# Altium integrated library National Semiconductor Audio.IntLib: 683 symbols (part 16 of 18)
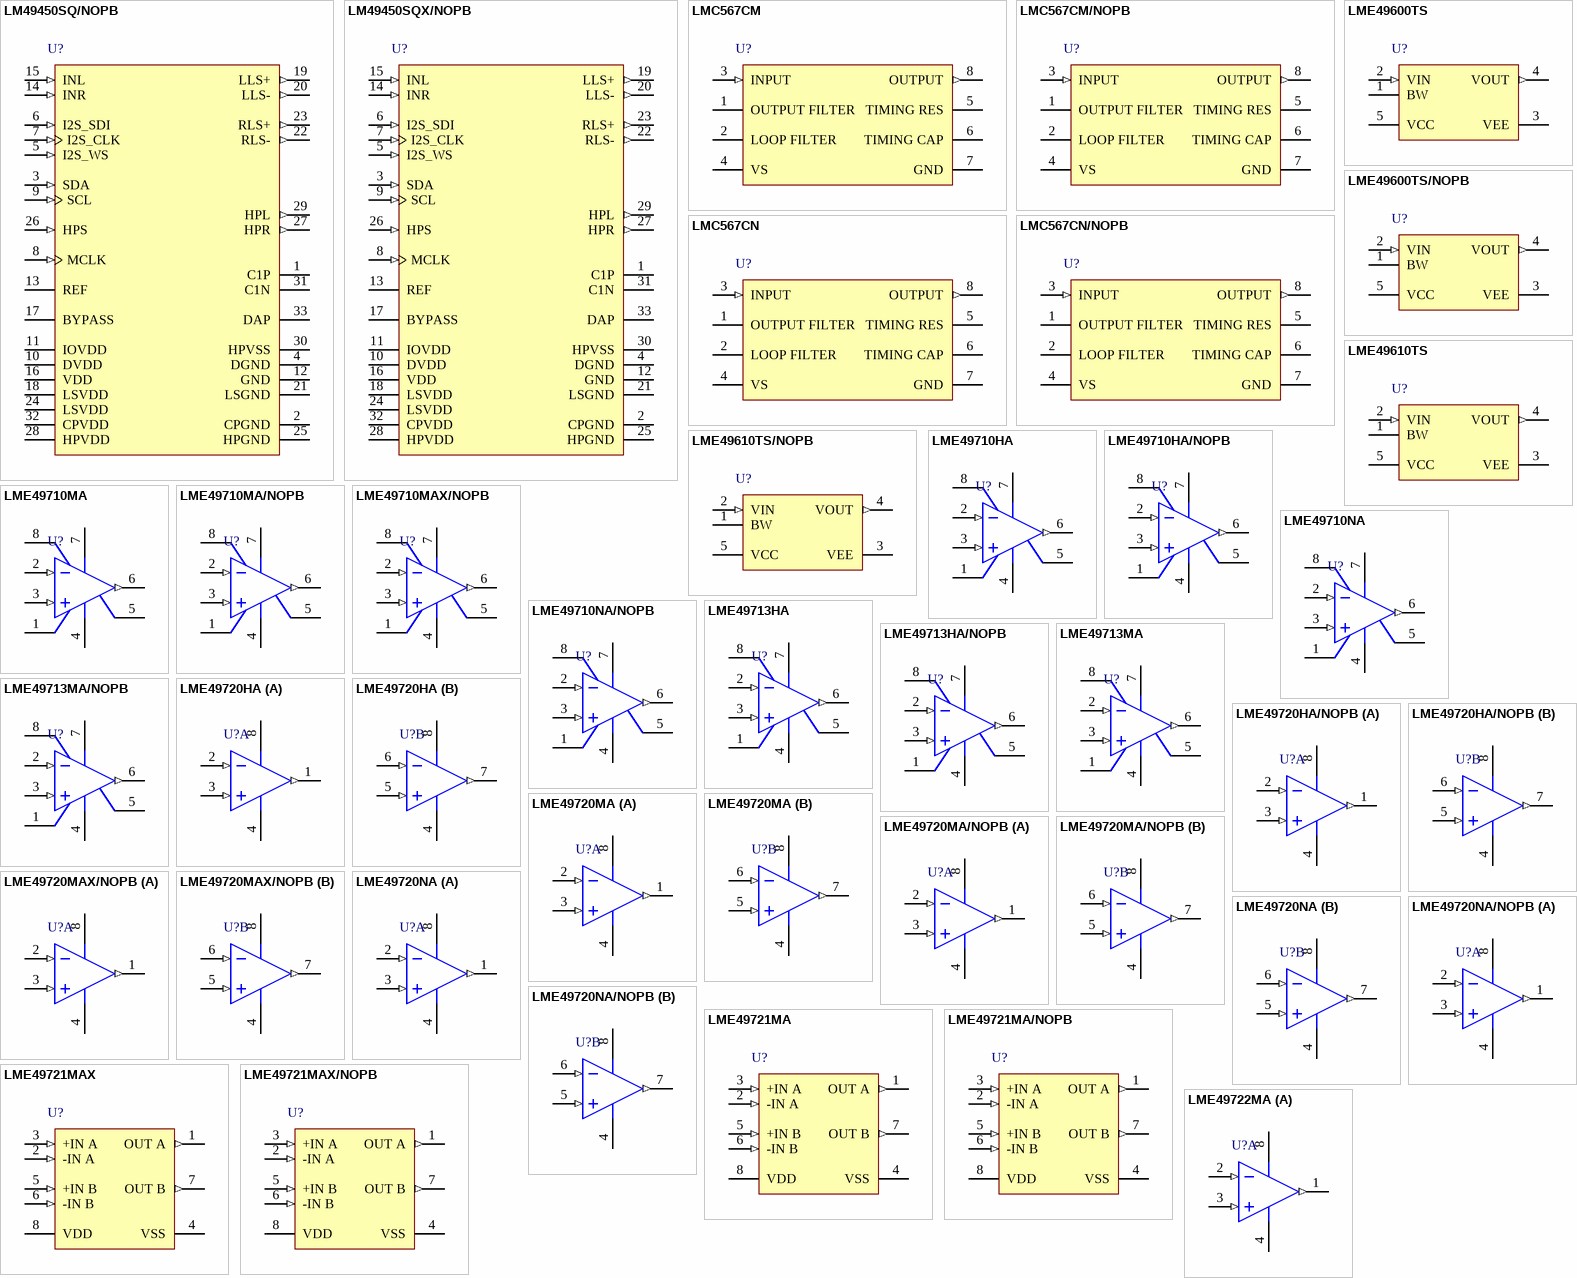
[diagram p41: symbols LM49450SQ/NOPB to LME49722MA]

## LME49710NA
designator U?
High Performance, High Fidelity Audio Operational Amplifier, 8-pin MDIP; PartNumber: LME49710NA; Manufacturer: National Semiconductor; PackageTopMarking: NSUZXYTT*LME*49710NA; PowerWise: Y; CompType: Audio IC; DatasheetVersion: Mar-2007; PackageVersion: revG, May-2006; PackageReference: N08E; PackageDescription: MDIP, .365 x .250 x .130in, 8 Lead, .100in Pitch; RoHS: Y; PinCount: 8; High-Reliability: Y; Code_JEDEC: MS-001-BA; ComponentLink1Description: Manufacturer URL; ComponentLink1URL: http://www.national.com/; ComponentLink2Description: LME49710 Datasheet; ComponentLink2URL: http://www.national.com/ds/LM/LME49710.pdf; ComponentLink3Description: LME49710 Web Page; ComponentLink3URL: http://www.national.com/pf/LM/LME49710.html; ComponentLink4Description: N08E Package Page; ComponentLink4URL: http://www.national.com/packaging/folders/n08e.html
footprint N08E (DIP, 8-Leads, Row Spacing 7.62mm, Pitch 2.54mm, Body 9.91x6.35mm)
pins: 1 NC, 2 -IN (in), 3 +IN (in), 4 V- (power), 5 NC, 6 OUTPUT (out), 7 V+ (power), 8 NC

## LME49710NA/NOPB
designator U?
High Performance, High Fidelity Audio Operational Amplifier, 8-pin MDIP, Pb-Free; PartNumber: LME49710NA/NOPB; Manufacturer: National Semiconductor; PackageTopMarking: NSUZXYTTE#*LME*49710NA; PowerWise: Y; CompType: Audio IC; DatasheetVersion: Mar-2007; PackageVersion: revG, May-2006; PackageReference: N08E; PackageDescription: MDIP, .365 x .250 x .130in, 8 Lead, .100in Pitch; RoHS: Y; PinCount: 8; High-Reliability: Y; Code_JEDEC: MS-001-BA; ComponentLink1Description: Manufacturer URL; ComponentLink1URL: http://www.national.com/; ComponentLink2Description: LME49710 Datasheet; ComponentLink2URL: http://www.national.com/ds/LM/LME49710.pdf; ComponentLink3Description: LME49710 Web Page; ComponentLink3URL: http://www.national.com/pf/LM/LME49710.html; ComponentLink4Description: N08E Package Page; ComponentLink4URL: http://www.national.com/packaging/folders/n08e.html
footprint N08E (DIP, 8-Leads, Row Spacing 7.62mm, Pitch 2.54mm, Body 9.91x6.35mm)
pins: 1 NC, 2 -IN (in), 3 +IN (in), 4 V- (power), 5 NC, 6 OUTPUT (out), 7 V+ (power), 8 NC

## LME49713HA
designator U?
High Performance, High Fidelity Current Feedback Audio Operational Amplifier, 8-pin TO-99; PartNumber: LME49713HA; Manufacturer: National Semiconductor; PackageTopMarking: NSZXYTTE#*LME*49713HA; PowerWise: N; CompType: Audio IC; High-Reliability: Y; DatasheetVersion: Aug-2008; PackageVersion: revF, Jun-1995; PackageReference: H08C; PackageDescription: Metal Can, TO-99, 8 Lead, .200 Dia., P.C.; RoHS: Y; PinCount: 8; Code_JEDEC: TO-99; ComponentLink1Description: Manufacturer URL; ComponentLink1URL: http://www.national.com/; ComponentLink2Description: LME49713 Datasheet; ComponentLink2URL: http://www.national.com/ds/LM/LME49713.pdf; ComponentLink3Description: LME49713 Web Page; ComponentLink3URL: http://www.national.com/pf/LM/LME49713.html; ComponentLink4Description: H08C Package Page; ComponentLink4URL: http://www.national.com/packaging/folders/h08c.html
footprint H08C (Can; 8 Leads; Pin Circle Dia. 5.08 mm; Lead Dia. 0.48 mm (max))
pins: 1 NC, 2 -IN (in), 3 +IN (in), 4 V- (power), 5 NC, 6 OUTPUT (out), 7 V+ (power), 8 NC

## LME49713HA/NOPB
designator U?
High Performance, High Fidelity Current Feedback Audio Operational Amplifier, 8-pin TO-99, Pb-Free; PartNumber: LME49713HA/NOPB; Manufacturer: National Semiconductor; PackageTopMarking: NSZXYTTE#*LME*49713HA; PowerWise: N; CompType: Audio IC; High-Reliability: Y; DatasheetVersion: Aug-2008; PackageVersion: revF, Jun-1995; PackageReference: H08C; PackageDescription: Metal Can, TO-99, 8 Lead, .200 Dia., P.C.; RoHS: Y; PinCount: 8; Code_JEDEC: TO-99; ComponentLink1Description: Manufacturer URL; ComponentLink1URL: http://www.national.com/; ComponentLink2Description: LME49713 Datasheet; ComponentLink2URL: http://www.national.com/ds/LM/LME49713.pdf; ComponentLink3Description: LME49713 Web Page; ComponentLink3URL: http://www.national.com/pf/LM/LME49713.html; ComponentLink4Description: H08C Package Page; ComponentLink4URL: http://www.national.com/packaging/folders/h08c.html
footprint H08C (Can; 8 Leads; Pin Circle Dia. 5.08 mm; Lead Dia. 0.48 mm (max))
pins: 1 NC, 2 -IN (in), 3 +IN (in), 4 V- (power), 5 NC, 6 OUTPUT (out), 7 V+ (power), 8 NC

## LME49713MA
designator U?
High Performance, High Fidelity Current Feedback Audio Operational Amplifier, 8-pin Narrow SOIC; PartNumber: LME49713MA; Manufacturer: National Semiconductor; PackageTopMarking: NSZXTT*L49713*MA; PowerWise: N; CompType: Audio IC; High-Reliability: Y; DatasheetVersion: Aug-2008; PackageVersion: revM, May-2009; PackageReference: M08A; PackageDescription: SOIC Narrow, 4.9 x 3.9 x 1.45mm, 8 Lead, 1.27mm Pitch; RoHS: Y; PinCount: 8; Code_JEDEC: MS-012-AA; Code_IPC: SOIC127P600-8; ComponentLink1Description: Manufacturer URL; ComponentLink1URL: http://www.national.com/; ComponentLink2Description: LME49713 Datasheet; ComponentLink2URL: http://www.national.com/ds/LM/LME49713.pdf; ComponentLink3Description: LME49713 Web Page; ComponentLink3URL: http://www.national.com/pf/LM/LME49713.html; ComponentLink4Description: M08A Package Page; ComponentLink4URL: http://www.national.com/packaging/folders/m08a.html
footprint M08A_N (SOIC, 8-Leads, Body 4.9x3.9mm, Pitch 1.27mm, IPC Medium Density)
footprint M08A_L (SOIC, 8-Leads, Body 4.9x3.9mm, Pitch 1.27mm, IPC High Density)
footprint M08A_M (SOIC, 8-Leads, Body 4.9x3.9mm, Pitch 1.27mm, IPC Low Density)
pins: 1 NC, 2 -IN (in), 3 +IN (in), 4 V- (power), 5 NC, 6 OUTPUT (out), 7 V+ (power), 8 NC

## LME49713MA/NOPB
designator U?
High Performance, High Fidelity Current Feedback Audio Operational Amplifier, 8-pin Narrow SOIC, Pb-Free; PartNumber: LME49713MA/NOPB; Manufacturer: National Semiconductor; PackageTopMarking: NSZXTT*L49713*MA; PowerWise: N; CompType: Audio IC; High-Reliability: Y; DatasheetVersion: Aug-2008; PackageVersion: revM, May-2009; PackageReference: M08A; PackageDescription: SOIC Narrow, 4.9 x 3.9 x 1.45mm, 8 Lead, 1.27mm Pitch; RoHS: Y; PinCount: 8; Code_JEDEC: MS-012-AA; Code_IPC: SOIC127P600-8; ComponentLink1Description: Manufacturer URL; ComponentLink1URL: http://www.national.com/; ComponentLink2Description: LME49713 Datasheet; ComponentLink2URL: http://www.national.com/ds/LM/LME49713.pdf; ComponentLink3Description: LME49713 Web Page; ComponentLink3URL: http://www.national.com/pf/LM/LME49713.html; ComponentLink4Description: M08A Package Page; ComponentLink4URL: http://www.national.com/packaging/folders/m08a.html
footprint M08A_N (SOIC, 8-Leads, Body 4.9x3.9mm, Pitch 1.27mm, IPC Medium Density)
footprint M08A_L (SOIC, 8-Leads, Body 4.9x3.9mm, Pitch 1.27mm, IPC High Density)
footprint M08A_M (SOIC, 8-Leads, Body 4.9x3.9mm, Pitch 1.27mm, IPC Low Density)
pins: 1 NC, 2 -IN (in), 3 +IN (in), 4 V- (power), 5 NC, 6 OUTPUT (out), 7 V+ (power), 8 NC

## LME49720HA
designator U?
Dual High Performance, High Fidelity Audio Operational Amplifier, 8-pin TO-99; PartNumber: LME49720HA; Manufacturer: National Semiconductor; PackageTopMarking: NSZXYTTE#*LME*49720HA; PowerWise: Y; CompType: Audio IC; DatasheetVersion: Oct-2007; PackageVersion: revF, Jun-1995; PackageReference: H08C; PackageDescription: Metal Can, TO-99, 8 Lead, .200 Dia., P.C.; RoHS: Y; PinCount: 8; High-Reliability: Y; Code_JEDEC: TO-99; ComponentLink1Description: Manufacturer URL; ComponentLink1URL: http://www.national.com/; ComponentLink2Description: LME49720 Datasheet; ComponentLink2URL: http://www.national.com/ds/LM/LME49720.pdf; ComponentLink3Description: LME49720 Web Page; ComponentLink3URL: http://www.national.com/pf/LM/LME49720.html; ComponentLink4Description: H08C Package Page; ComponentLink4URL: http://www.national.com/packaging/folders/h08c.html
footprint H08C (Can; 8 Leads; Pin Circle Dia. 5.08 mm; Lead Dia. 0.48 mm (max))
pins on every part: 4 V- (power), 8 V+ (power)
part A pins: 1 OUT A (out), 2 IN A (in), 3 IN A (in)
part B pins: 5 IN B (in), 6 IN B (in), 7 OUT B (out)

## LME49720HA/NOPB
designator U?
Dual High Performance, High Fidelity Audio Operational Amplifier, 8-pin TO-99, Pb-Free; PartNumber: LME49720HA/NOPB; Manufacturer: National Semiconductor; PackageTopMarking: NSZXYTTE#*LME*49720HA; PowerWise: Y; CompType: Audio IC; DatasheetVersion: Oct-2007; PackageVersion: revF, Jun-1995; PackageReference: H08C; PackageDescription: Metal Can, TO-99, 8 Lead, .200 Dia., P.C.; RoHS: Y; PinCount: 8; High-Reliability: Y; Code_JEDEC: TO-99; ComponentLink1Description: Manufacturer URL; ComponentLink1URL: http://www.national.com/; ComponentLink2Description: LME49720 Datasheet; ComponentLink2URL: http://www.national.com/ds/LM/LME49720.pdf; ComponentLink3Description: LME49720 Web Page; ComponentLink3URL: http://www.national.com/pf/LM/LME49720.html; ComponentLink4Description: H08C Package Page; ComponentLink4URL: http://www.national.com/packaging/folders/h08c.html
footprint H08C (Can; 8 Leads; Pin Circle Dia. 5.08 mm; Lead Dia. 0.48 mm (max))
pins on every part: 4 V- (power), 8 V+ (power)
part A pins: 1 OUT A (out), 2 IN A (in), 3 IN A (in)
part B pins: 5 IN B (in), 6 IN B (in), 7 OUT B (out)

## LME49720MA
designator U?
Dual High Performance, High Fidelity Audio Operational Amplifier, 8-pin Narrow SOIC; PartNumber: LME49720MA; Manufacturer: National Semiconductor; PackageTopMarking: NSZXTT*L49720*MA; PowerWise: Y; CompType: Audio IC; DatasheetVersion: Oct-2007; PackageVersion: revM, May-2009; PackageReference: M08A; PackageDescription: SOIC Narrow, 4.9 x 3.9 x 1.45mm, 8 Lead, 1.27mm Pitch; RoHS: Y; PinCount: 8; High-Reliability: Y; Code_JEDEC: MS-012-AA; Code_IPC: SOIC127P600-8; ComponentLink1Description: Manufacturer URL; ComponentLink1URL: http://www.national.com/; ComponentLink2Description: LME49720 Datasheet; ComponentLink2URL: http://www.national.com/ds/LM/LME49720.pdf; ComponentLink3Description: LME49720 Web Page; ComponentLink3URL: http://www.national.com/pf/LM/LME49720.html; ComponentLink4Description: M08A Package Page; ComponentLink4URL: http://www.national.com/packaging/folders/m08a.html
footprint M08A_N (SOIC, 8-Leads, Body 4.9x3.9mm, Pitch 1.27mm, IPC Medium Density)
footprint M08A_L (SOIC, 8-Leads, Body 4.9x3.9mm, Pitch 1.27mm, IPC High Density)
footprint M08A_M (SOIC, 8-Leads, Body 4.9x3.9mm, Pitch 1.27mm, IPC Low Density)
pins on every part: 4 V- (power), 8 V+ (power)
part A pins: 1 OUT A (out), 2 IN A (in), 3 IN A (in)
part B pins: 5 IN B (in), 6 IN B (in), 7 OUT B (out)

## LME49720MA/NOPB
designator U?
Dual High Performance, High Fidelity Audio Operational Amplifier, 8-pin Narrow SOIC, Pb-Free; PartNumber: LME49720MA/NOPB; Manufacturer: National Semiconductor; PackageTopMarking: NSZXTT*L49720*MA; PowerWise: Y; CompType: Audio IC; DatasheetVersion: Oct-2007; PackageVersion: revM, May-2009; PackageReference: M08A; PackageDescription: SOIC Narrow, 4.9 x 3.9 x 1.45mm, 8 Lead, 1.27mm Pitch; RoHS: Y; PinCount: 8; High-Reliability: Y; Code_JEDEC: MS-012-AA; Code_IPC: SOIC127P600-8; ComponentLink1Description: Manufacturer URL; ComponentLink1URL: http://www.national.com/; ComponentLink2Description: LME49720 Datasheet; ComponentLink2URL: http://www.national.com/ds/LM/LME49720.pdf; ComponentLink3Description: LME49720 Web Page; ComponentLink3URL: http://www.national.com/pf/LM/LME49720.html; ComponentLink4Description: M08A Package Page; ComponentLink4URL: http://www.national.com/packaging/folders/m08a.html
footprint M08A_N (SOIC, 8-Leads, Body 4.9x3.9mm, Pitch 1.27mm, IPC Medium Density)
footprint M08A_L (SOIC, 8-Leads, Body 4.9x3.9mm, Pitch 1.27mm, IPC High Density)
footprint M08A_M (SOIC, 8-Leads, Body 4.9x3.9mm, Pitch 1.27mm, IPC Low Density)
pins on every part: 4 V- (power), 8 V+ (power)
part A pins: 1 OUT A (out), 2 IN A (in), 3 IN A (in)
part B pins: 5 IN B (in), 6 IN B (in), 7 OUT B (out)

## LME49720MAX/NOPB
designator U?
Dual High Performance, High Fidelity Audio Operational Amplifier, 8-pin Narrow SOIC, Pb-Free; PartNumber: LME49720MAX/NOPB; Manufacturer: National Semiconductor; PackageTopMarking: NSZXTT*L49720*MA; PowerWise: Y; CompType: Audio IC; DatasheetVersion: Oct-2007; PackageVersion: revM, May-2009; PackageReference: M08A; PackageDescription: SOIC Narrow, 4.9 x 3.9 x 1.45mm, 8 Lead, 1.27mm Pitch; RoHS: Y; PinCount: 8; High-Reliability: Y; Code_JEDEC: MS-012-AA; Code_IPC: SOIC127P600-8; ComponentLink1Description: Manufacturer URL; ComponentLink1URL: http://www.national.com/; ComponentLink2Description: LME49720 Datasheet; ComponentLink2URL: http://www.national.com/ds/LM/LME49720.pdf; ComponentLink3Description: LME49720 Web Page; ComponentLink3URL: http://www.national.com/pf/LM/LME49720.html; ComponentLink4Description: M08A Package Page; ComponentLink4URL: http://www.national.com/packaging/folders/m08a.html
footprint M08A_N (SOIC, 8-Leads, Body 4.9x3.9mm, Pitch 1.27mm, IPC Medium Density)
footprint M08A_L (SOIC, 8-Leads, Body 4.9x3.9mm, Pitch 1.27mm, IPC High Density)
footprint M08A_M (SOIC, 8-Leads, Body 4.9x3.9mm, Pitch 1.27mm, IPC Low Density)
pins on every part: 4 V- (power), 8 V+ (power)
part A pins: 1 OUT A (out), 2 IN A (in), 3 IN A (in)
part B pins: 5 IN B (in), 6 IN B (in), 7 OUT B (out)

## LME49720NA
designator U?
Dual High Performance, High Fidelity Audio Operational Amplifier, 8-pin MDIP; PartNumber: LME49720NA; Manufacturer: National Semiconductor; PackageTopMarking: NSUZXYTT*LME*49720NA; PowerWise: Y; CompType: Audio IC; DatasheetVersion: Oct-2007; PackageVersion: revG, May-2006; PackageReference: N08E; PackageDescription: MDIP, .365 x .250 x .130in, 8 Lead, .100in Pitch; RoHS: Y; PinCount: 8; High-Reliability: Y; Code_JEDEC: MS-001-BA; ComponentLink1Description: Manufacturer URL; ComponentLink1URL: http://www.national.com/; ComponentLink2Description: LME49720 Datasheet; ComponentLink2URL: http://www.national.com/ds/LM/LME49720.pdf; ComponentLink3Description: LME49720 Web Page; ComponentLink3URL: http://www.national.com/pf/LM/LME49720.html; ComponentLink4Description: N08E Package Page; ComponentLink4URL: http://www.national.com/packaging/folders/n08e.html
footprint N08E (DIP, 8-Leads, Row Spacing 7.62mm, Pitch 2.54mm, Body 9.91x6.35mm)
pins on every part: 4 V- (power), 8 V+ (power)
part A pins: 1 OUT A (out), 2 IN A (in), 3 IN A (in)
part B pins: 5 IN B (in), 6 IN B (in), 7 OUT B (out)

## LME49720NA/NOPB
designator U?
Dual High Performance, High Fidelity Audio Operational Amplifier, 8-pin MDIP, Pb-Free; PartNumber: LME49720NA/NOPB; Manufacturer: National Semiconductor; PackageTopMarking: NSUZXYTTE#*LME*49720NA; PowerWise: Y; CompType: Audio IC; DatasheetVersion: Oct-2007; PackageVersion: revG, May-2006; PackageReference: N08E; PackageDescription: MDIP, .365 x .250 x .130in, 8 Lead, .100in Pitch; RoHS: Y; PinCount: 8; High-Reliability: Y; Code_JEDEC: MS-001-BA; ComponentLink1Description: Manufacturer URL; ComponentLink1URL: http://www.national.com/; ComponentLink2Description: LME49720 Datasheet; ComponentLink2URL: http://www.national.com/ds/LM/LME49720.pdf; ComponentLink3Description: LME49720 Web Page; ComponentLink3URL: http://www.national.com/pf/LM/LME49720.html; ComponentLink4Description: N08E Package Page; ComponentLink4URL: http://www.national.com/packaging/folders/n08e.html
footprint N08E (DIP, 8-Leads, Row Spacing 7.62mm, Pitch 2.54mm, Body 9.91x6.35mm)
pins on every part: 4 V- (power), 8 V+ (power)
part A pins: 1 OUT A (out), 2 IN A (in), 3 IN A (in)
part B pins: 5 IN B (in), 6 IN B (in), 7 OUT B (out)

## LME49721MA
designator U?
High Performance, High Fidelity Rail-to-Rail Input/Output Audio Operational Amplifier, 8-pin Narrow SOIC; PartNumber: LME49721MA; Manufacturer: National Semiconductor; PackageTopMarking: NSZXTT*L49721*MA; PowerWise: N; CompType: Audio IC; High-Reliability: Y; DatasheetVersion: Oct-2007; PackageVersion: revM, May-2009; PackageReference: M08A; PackageDescription: SOIC Narrow, 4.9 x 3.9 x 1.45mm, 8 Lead, 1.27mm Pitch; RoHS: N; PinCount: 8; Code_JEDEC: MS-012-AA; Code_IPC: SOIC127P600-8; ComponentLink1Description: Manufacturer URL; ComponentLink1URL: http://www.national.com/; ComponentLink2Description: LME49721 Datasheet; ComponentLink2URL: http://www.national.com/ds/LM/LME49721.pdf; ComponentLink3Description: LME49721 Web Page; ComponentLink3URL: http://www.national.com/pf/LM/LME49721.html; ComponentLink4Description: M08A Package Page; ComponentLink4URL: http://www.national.com/packaging/folders/m08a.html
footprint M08A_N (SOIC, 8-Leads, Body 4.9x3.9mm, Pitch 1.27mm, IPC Medium Density)
footprint M08A_L (SOIC, 8-Leads, Body 4.9x3.9mm, Pitch 1.27mm, IPC High Density)
footprint M08A_M (SOIC, 8-Leads, Body 4.9x3.9mm, Pitch 1.27mm, IPC Low Density)
pins: 1 OUT A (out), 2 -IN A (in), 3 +IN A (in), 4 VSS (power), 5 +IN B (in), 6 -IN B (in), 7 OUT B (out), 8 VDD (power)

## LME49721MA/NOPB
designator U?
High Performance, High Fidelity Rail-to-Rail Input/Output Audio Operational Amplifier, 8-pin Narrow SOIC, Pb-Free; PartNumber: LME49721MA/NOPB; Manufacturer: National Semiconductor; PackageTopMarking: NSZXTT*L49721*MA; PowerWise: N; CompType: Audio IC; High-Reliability: Y; DatasheetVersion: Oct-2007; PackageVersion: revM, May-2009; PackageReference: M08A; PackageDescription: SOIC Narrow, 4.9 x 3.9 x 1.45mm, 8 Lead, 1.27mm Pitch; RoHS: Y; PinCount: 8; Code_JEDEC: MS-012-AA; Code_IPC: SOIC127P600-8; ComponentLink1Description: Manufacturer URL; ComponentLink1URL: http://www.national.com/; ComponentLink2Description: LME49721 Datasheet; ComponentLink2URL: http://www.national.com/ds/LM/LME49721.pdf; ComponentLink3Description: LME49721 Web Page; ComponentLink3URL: http://www.national.com/pf/LM/LME49721.html; ComponentLink4Description: M08A Package Page; ComponentLink4URL: http://www.national.com/packaging/folders/m08a.html
footprint M08A_N (SOIC, 8-Leads, Body 4.9x3.9mm, Pitch 1.27mm, IPC Medium Density)
footprint M08A_L (SOIC, 8-Leads, Body 4.9x3.9mm, Pitch 1.27mm, IPC High Density)
footprint M08A_M (SOIC, 8-Leads, Body 4.9x3.9mm, Pitch 1.27mm, IPC Low Density)
pins: 1 OUT A (out), 2 -IN A (in), 3 +IN A (in), 4 VSS (power), 5 +IN B (in), 6 -IN B (in), 7 OUT B (out), 8 VDD (power)

## LME49721MAX
designator U?
High Performance, High Fidelity Rail-to-Rail Input/Output Audio Operational Amplifier, 8-pin Narrow SOIC; PartNumber: LME49721MAX; Manufacturer: National Semiconductor; PackageTopMarking: NSZXTT*L49721*MA; PowerWise: N; CompType: Audio IC; High-Reliability: Y; DatasheetVersion: Oct-2007; PackageVersion: revM, May-2009; PackageReference: M08A; PackageDescription: SOIC Narrow, 4.9 x 3.9 x 1.45mm, 8 Lead, 1.27mm Pitch; RoHS: N; PinCount: 8; Code_JEDEC: MS-012-AA; Code_IPC: SOIC127P600-8; ComponentLink1Description: Manufacturer URL; ComponentLink1URL: http://www.national.com/; ComponentLink2Description: LME49721 Datasheet; ComponentLink2URL: http://www.national.com/ds/LM/LME49721.pdf; ComponentLink3Description: LME49721 Web Page; ComponentLink3URL: http://www.national.com/pf/LM/LME49721.html; ComponentLink4Description: M08A Package Page; ComponentLink4URL: http://www.national.com/packaging/folders/m08a.html
footprint M08A_N (SOIC, 8-Leads, Body 4.9x3.9mm, Pitch 1.27mm, IPC Medium Density)
footprint M08A_L (SOIC, 8-Leads, Body 4.9x3.9mm, Pitch 1.27mm, IPC High Density)
footprint M08A_M (SOIC, 8-Leads, Body 4.9x3.9mm, Pitch 1.27mm, IPC Low Density)
pins: 1 OUT A (out), 2 -IN A (in), 3 +IN A (in), 4 VSS (power), 5 +IN B (in), 6 -IN B (in), 7 OUT B (out), 8 VDD (power)

## LME49721MAX/NOPB
designator U?
High Performance, High Fidelity Rail-to-Rail Input/Output Audio Operational Amplifier, 8-pin Narrow SOIC, Pb-Free; PartNumber: LME49721MAX/NOPB; Manufacturer: National Semiconductor; PackageTopMarking: NSZXTT*L49721*MA; PowerWise: N; CompType: Audio IC; High-Reliability: Y; DatasheetVersion: Oct-2007; PackageVersion: revM, May-2009; PackageReference: M08A; PackageDescription: SOIC Narrow, 4.9 x 3.9 x 1.45mm, 8 Lead, 1.27mm Pitch; RoHS: Y; PinCount: 8; Code_JEDEC: MS-012-AA; Code_IPC: SOIC127P600-8; ComponentLink1Description: Manufacturer URL; ComponentLink1URL: http://www.national.com/; ComponentLink2Description: LME49721 Datasheet; ComponentLink2URL: http://www.national.com/ds/LM/LME49721.pdf; ComponentLink3Description: LME49721 Web Page; ComponentLink3URL: http://www.national.com/pf/LM/LME49721.html; ComponentLink4Description: M08A Package Page; ComponentLink4URL: http://www.national.com/packaging/folders/m08a.html
footprint M08A_N (SOIC, 8-Leads, Body 4.9x3.9mm, Pitch 1.27mm, IPC Medium Density)
footprint M08A_L (SOIC, 8-Leads, Body 4.9x3.9mm, Pitch 1.27mm, IPC High Density)
footprint M08A_M (SOIC, 8-Leads, Body 4.9x3.9mm, Pitch 1.27mm, IPC Low Density)
pins: 1 OUT A (out), 2 -IN A (in), 3 +IN A (in), 4 VSS (power), 5 +IN B (in), 6 -IN B (in), 7 OUT B (out), 8 VDD (power)

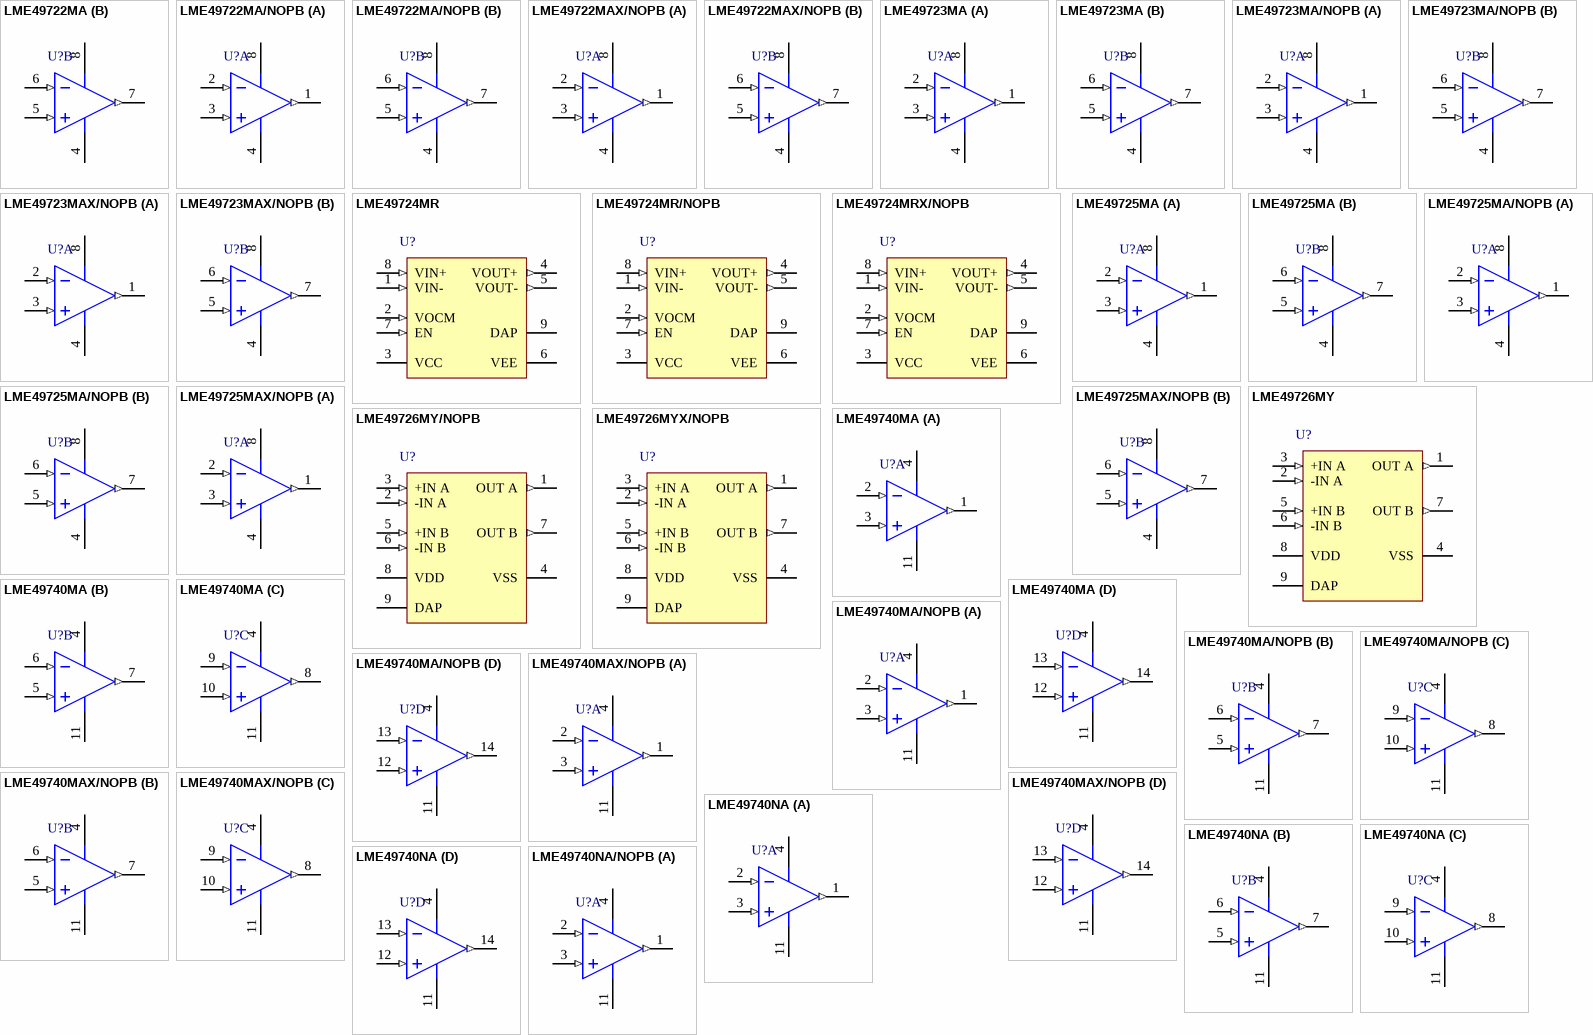
[diagram p24: symbols LME49722MA to LME49740NA/NOPB]

## LME49722MA
designator U?
Low Noise, High Performance, High Fidelity Dual Audio Operational Amplifier, 8-pin Narrow SOIC; PartNumber: LME49722MA; Manufacturer: National Semiconductor; PackageTopMarking: NSZXTT*L49722*MA; PowerWise: N; CompType: Audio IC; High-Reliability: Y; DatasheetVersion: Mar-2008; PackageVersion: revM, May-2009; PackageReference: M08A; PackageDescription: SOIC Narrow, 4.9 x 3.9 x 1.45mm, 8 Lead, 1.27mm Pitch; RoHS: Y; PinCount: 8; Code_JEDEC: MS-012-AA; Code_IPC: SOIC127P600-8; ComponentLink1Description: Manufacturer URL; ComponentLink1URL: http://www.national.com/; ComponentLink2Description: LME49722 Datasheet; ComponentLink2URL: http://www.national.com/ds/LM/LME49722.pdf; ComponentLink3Description: LME49722 Web Page; ComponentLink3URL: http://www.national.com/pf/LM/LME49722.html; ComponentLink4Description: M08A Package Page; ComponentLink4URL: http://www.national.com/packaging/folders/m08a.html
footprint M08A_N (SOIC, 8-Leads, Body 4.9x3.9mm, Pitch 1.27mm, IPC Medium Density)
footprint M08A_L (SOIC, 8-Leads, Body 4.9x3.9mm, Pitch 1.27mm, IPC High Density)
footprint M08A_M (SOIC, 8-Leads, Body 4.9x3.9mm, Pitch 1.27mm, IPC Low Density)
pins on every part: 4 V- (power), 8 V+ (power)
part A pins: 1 OUT A (out), 2 IN A (in), 3 IN A (in)
part B pins: 5 IN B (in), 6 IN B (in), 7 OUT B (out)

## LME49722MA/NOPB
designator U?
Low Noise, High Performance, High Fidelity Dual Audio Operational Amplifier, 8-pin Narrow SOIC, Pb-Free; PartNumber: LME49722MA/NOPB; Manufacturer: National Semiconductor; PackageTopMarking: NSZXTT*L49722*MA; PowerWise: N; CompType: Audio IC; High-Reliability: Y; DatasheetVersion: Mar-2008; PackageVersion: revM, May-2009; PackageReference: M08A; PackageDescription: SOIC Narrow, 4.9 x 3.9 x 1.45mm, 8 Lead, 1.27mm Pitch; RoHS: Y; PinCount: 8; Code_JEDEC: MS-012-AA; Code_IPC: SOIC127P600-8; ComponentLink1Description: Manufacturer URL; ComponentLink1URL: http://www.national.com/; ComponentLink2Description: LME49722 Datasheet; ComponentLink2URL: http://www.national.com/ds/LM/LME49722.pdf; ComponentLink3Description: LME49722 Web Page; ComponentLink3URL: http://www.national.com/pf/LM/LME49722.html; ComponentLink4Description: M08A Package Page; ComponentLink4URL: http://www.national.com/packaging/folders/m08a.html
footprint M08A_N (SOIC, 8-Leads, Body 4.9x3.9mm, Pitch 1.27mm, IPC Medium Density)
footprint M08A_L (SOIC, 8-Leads, Body 4.9x3.9mm, Pitch 1.27mm, IPC High Density)
footprint M08A_M (SOIC, 8-Leads, Body 4.9x3.9mm, Pitch 1.27mm, IPC Low Density)
pins on every part: 4 V- (power), 8 V+ (power)
part A pins: 1 OUT A (out), 2 IN A (in), 3 IN A (in)
part B pins: 5 IN B (in), 6 IN B (in), 7 OUT B (out)

## LME49722MAX/NOPB
designator U?
Low Noise, High Performance, High Fidelity Dual Audio Operational Amplifier, 8-pin Narrow SOIC, Pb-Free; PartNumber: LME49722MAX/NOPB; Manufacturer: National Semiconductor; PackageTopMarking: NSZXTT*L49722*MA; PowerWise: N; CompType: Audio IC; High-Reliability: Y; DatasheetVersion: Mar-2008; PackageVersion: revM, May-2009; PackageReference: M08A; PackageDescription: SOIC Narrow, 4.9 x 3.9 x 1.45mm, 8 Lead, 1.27mm Pitch; RoHS: Y; PinCount: 8; Code_JEDEC: MS-012-AA; Code_IPC: SOIC127P600-8; ComponentLink1Description: Manufacturer URL; ComponentLink1URL: http://www.national.com/; ComponentLink2Description: LME49722 Datasheet; ComponentLink2URL: http://www.national.com/ds/LM/LME49722.pdf; ComponentLink3Description: LME49722 Web Page; ComponentLink3URL: http://www.national.com/pf/LM/LME49722.html; ComponentLink4Description: M08A Package Page; ComponentLink4URL: http://www.national.com/packaging/folders/m08a.html
footprint M08A_N (SOIC, 8-Leads, Body 4.9x3.9mm, Pitch 1.27mm, IPC Medium Density)
footprint M08A_L (SOIC, 8-Leads, Body 4.9x3.9mm, Pitch 1.27mm, IPC High Density)
footprint M08A_M (SOIC, 8-Leads, Body 4.9x3.9mm, Pitch 1.27mm, IPC Low Density)
pins on every part: 4 V- (power), 8 V+ (power)
part A pins: 1 OUT A (out), 2 IN A (in), 3 IN A (in)
part B pins: 5 IN B (in), 6 IN B (in), 7 OUT B (out)

## LME49723MA
designator U?
Dual High Fidelity Audio Operational Amplifier, 8-pin Narrow SOIC; PartNumber: LME49723MA; Manufacturer: National Semiconductor; PackageTopMarking: NSZXTT*L49723*MA; PowerWise: N; CompType: Audio IC; High-Reliability: Y; DatasheetVersion: Feb-2008; PackageVersion: revM, May-2009; PackageReference: M08A; PackageDescription: SOIC Narrow, 4.9 x 3.9 x 1.45mm, 8 Lead, 1.27mm Pitch; RoHS: Y; PinCount: 8; Code_JEDEC: MS-012-AA; Code_IPC: SOIC127P600-8; ComponentLink1Description: Manufacturer URL; ComponentLink1URL: http://www.national.com/; ComponentLink2Description: LME49723 Datasheet; ComponentLink2URL: http://www.national.com/ds/LM/LME49723.pdf; ComponentLink3Description: LME49723 Web Page; ComponentLink3URL: http://www.national.com/pf/LM/LME49723.html; ComponentLink4Description: M08A Package Page; ComponentLink4URL: http://www.national.com/packaging/folders/m08a.html
footprint M08A_N (SOIC, 8-Leads, Body 4.9x3.9mm, Pitch 1.27mm, IPC Medium Density)
footprint M08A_L (SOIC, 8-Leads, Body 4.9x3.9mm, Pitch 1.27mm, IPC High Density)
footprint M08A_M (SOIC, 8-Leads, Body 4.9x3.9mm, Pitch 1.27mm, IPC Low Density)
pins on every part: 4 V- (power), 8 V+ (power)
part A pins: 1 OUT A (out), 2 IN A (in), 3 IN A (in)
part B pins: 5 IN B (in), 6 IN B (in), 7 OUT B (out)

## LME49723MA/NOPB
designator U?
Dual High Fidelity Audio Operational Amplifier, 8-pin Narrow SOIC, Pb-Free; PartNumber: LME49723MA/NOPB; Manufacturer: National Semiconductor; PackageTopMarking: NSZXTT*L49723*MA; PowerWise: N; CompType: Audio IC; High-Reliability: Y; DatasheetVersion: Feb-2008; PackageVersion: revM, May-2009; PackageReference: M08A; PackageDescription: SOIC Narrow, 4.9 x 3.9 x 1.45mm, 8 Lead, 1.27mm Pitch; RoHS: Y; PinCount: 8; Code_JEDEC: MS-012-AA; Code_IPC: SOIC127P600-8; ComponentLink1Description: Manufacturer URL; ComponentLink1URL: http://www.national.com/; ComponentLink2Description: LME49723 Datasheet; ComponentLink2URL: http://www.national.com/ds/LM/LME49723.pdf; ComponentLink3Description: LME49723 Web Page; ComponentLink3URL: http://www.national.com/pf/LM/LME49723.html; ComponentLink4Description: M08A Package Page; ComponentLink4URL: http://www.national.com/packaging/folders/m08a.html
footprint M08A_N (SOIC, 8-Leads, Body 4.9x3.9mm, Pitch 1.27mm, IPC Medium Density)
footprint M08A_L (SOIC, 8-Leads, Body 4.9x3.9mm, Pitch 1.27mm, IPC High Density)
footprint M08A_M (SOIC, 8-Leads, Body 4.9x3.9mm, Pitch 1.27mm, IPC Low Density)
pins on every part: 4 V- (power), 8 V+ (power)
part A pins: 1 OUT A (out), 2 IN A (in), 3 IN A (in)
part B pins: 5 IN B (in), 6 IN B (in), 7 OUT B (out)

## LME49723MAX/NOPB
designator U?
Dual High Fidelity Audio Operational Amplifier, 8-pin Narrow SOIC, Pb-Free; PartNumber: LME49723MAX/NOPB; Manufacturer: National Semiconductor; PackageTopMarking: NSZXTT*L49723*MA; PowerWise: N; CompType: Audio IC; High-Reliability: Y; DatasheetVersion: Feb-2008; PackageVersion: revM, May-2009; PackageReference: M08A; PackageDescription: SOIC Narrow, 4.9 x 3.9 x 1.45mm, 8 Lead, 1.27mm Pitch; RoHS: Y; PinCount: 8; Code_JEDEC: MS-012-AA; Code_IPC: SOIC127P600-8; ComponentLink1Description: Manufacturer URL; ComponentLink1URL: http://www.national.com/; ComponentLink2Description: LME49723 Datasheet; ComponentLink2URL: http://www.national.com/ds/LM/LME49723.pdf; ComponentLink3Description: LME49723 Web Page; ComponentLink3URL: http://www.national.com/pf/LM/LME49723.html; ComponentLink4Description: M08A Package Page; ComponentLink4URL: http://www.national.com/packaging/folders/m08a.html
footprint M08A_N (SOIC, 8-Leads, Body 4.9x3.9mm, Pitch 1.27mm, IPC Medium Density)
footprint M08A_L (SOIC, 8-Leads, Body 4.9x3.9mm, Pitch 1.27mm, IPC High Density)
footprint M08A_M (SOIC, 8-Leads, Body 4.9x3.9mm, Pitch 1.27mm, IPC Low Density)
pins on every part: 4 V- (power), 8 V+ (power)
part A pins: 1 OUT A (out), 2 IN A (in), 3 IN A (in)
part B pins: 5 IN B (in), 6 IN B (in), 7 OUT B (out)

## LME49724MR
designator U?
High Performance, High Fidelity, Fully-Differential Audio Operational Amplifier, 8-pin PSOP; PartNumber: LME49724MR; Manufacturer: National Semiconductor; PackageTopMarking: NSXYTT*L49724*MR; PowerWise: N; CompType: Audio IC; High-Reliability: Y; DatasheetVersion: Nov-2008; PackageVersion: revB, Dec-2007; PackageReference: MRA08B; PackageDescription: Molded, PSOP .193 x .154 x .058in, 8 Lead, .050in Pitch, Large DAP; RoHS: Y; PinCount: 8; Code_JEDEC: MS-012-AA; ComponentLink1Description: Manufacturer URL; ComponentLink1URL: http://www.national.com/; ComponentLink2Description: LME49724 Datasheet; ComponentLink2URL: http://www.national.com/ds/LM/LME49724.pdf; ComponentLink3Description: LME49724 Web Page; ComponentLink3URL: http://www.national.com/pf/LM/LME49724.html; ComponentLink4Description: MRA08B Package Page; ComponentLink4URL: http://www.national.com/packaging/folders/mra08b.html
footprint MRA08B_N (SOIC, 8-Leads, Body 4.9x3.9mm, Pitch 1.27mm, Thermal Pad, IPC Medium Density)
footprint MRA08B_L (SOIC, 8-Leads, Body 4.9x3.9mm, Pitch 1.27mm, Thermal Pad, IPC High Density)
footprint MRA08B_M (SOIC, 8-Leads, Body 4.9x3.9mm, Pitch 1.27mm, Thermal Pad, IPC Low Density)
pins: 1 VIN- (in), 2 VOCM (in), 3 VCC (power), 4 VOUT+ (out), 5 VOUT- (out), 6 VEE (power), 7 EN (in), 8 VIN+ (in), 9 DAP (power)

## LME49724MR/NOPB
designator U?
High Performance, High Fidelity, Fully-Differential Audio Operational Amplifier, 8-pin PSOP, Pb-Free; PartNumber: LME49724MR/NOPB; Manufacturer: National Semiconductor; PackageTopMarking: NSXYTT*L49724*MR; PowerWise: N; CompType: Audio IC; High-Reliability: Y; DatasheetVersion: Nov-2008; PackageVersion: revB, Dec-2007; PackageReference: MRA08B; PackageDescription: Molded, PSOP .193 x .154 x .058in, 8 Lead, .050in Pitch, Large DAP; RoHS: Y; PinCount: 8; Code_JEDEC: MS-012-AA; ComponentLink1Description: Manufacturer URL; ComponentLink1URL: http://www.national.com/; ComponentLink2Description: LME49724 Datasheet; ComponentLink2URL: http://www.national.com/ds/LM/LME49724.pdf; ComponentLink3Description: LME49724 Web Page; ComponentLink3URL: http://www.national.com/pf/LM/LME49724.html; ComponentLink4Description: MRA08B Package Page; ComponentLink4URL: http://www.national.com/packaging/folders/mra08b.html
footprint MRA08B_N (SOIC, 8-Leads, Body 4.9x3.9mm, Pitch 1.27mm, Thermal Pad, IPC Medium Density)
footprint MRA08B_L (SOIC, 8-Leads, Body 4.9x3.9mm, Pitch 1.27mm, Thermal Pad, IPC High Density)
footprint MRA08B_M (SOIC, 8-Leads, Body 4.9x3.9mm, Pitch 1.27mm, Thermal Pad, IPC Low Density)
pins: 1 VIN- (in), 2 VOCM (in), 3 VCC (power), 4 VOUT+ (out), 5 VOUT- (out), 6 VEE (power), 7 EN (in), 8 VIN+ (in), 9 DAP (power)

## LME49724MRX/NOPB
designator U?
High Performance, High Fidelity, Fully-Differential Audio Operational Amplifier, 8-pin PSOP, Pb-Free; PartNumber: LME49724MRX/NOPB; Manufacturer: National Semiconductor; PackageTopMarking: NSXYTT*L49724*MR; PowerWise: N; CompType: Audio IC; High-Reliability: Y; DatasheetVersion: Nov-2008; PackageVersion: revB, Dec-2007; PackageReference: MRA08B; PackageDescription: Molded, PSOP .193 x .154 x .058in, 8 Lead, .050in Pitch, Large DAP; RoHS: Y; PinCount: 8; Code_JEDEC: MS-012-AA; ComponentLink1Description: Manufacturer URL; ComponentLink1URL: http://www.national.com/; ComponentLink2Description: LME49724 Datasheet; ComponentLink2URL: http://www.national.com/ds/LM/LME49724.pdf; ComponentLink3Description: LME49724 Web Page; ComponentLink3URL: http://www.national.com/pf/LM/LME49724.html; ComponentLink4Description: MRA08B Package Page; ComponentLink4URL: http://www.national.com/packaging/folders/mra08b.html
footprint MRA08B_N (SOIC, 8-Leads, Body 4.9x3.9mm, Pitch 1.27mm, Thermal Pad, IPC Medium Density)
footprint MRA08B_L (SOIC, 8-Leads, Body 4.9x3.9mm, Pitch 1.27mm, Thermal Pad, IPC High Density)
footprint MRA08B_M (SOIC, 8-Leads, Body 4.9x3.9mm, Pitch 1.27mm, Thermal Pad, IPC Low Density)
pins: 1 VIN- (in), 2 VOCM (in), 3 VCC (power), 4 VOUT+ (out), 5 VOUT- (out), 6 VEE (power), 7 EN (in), 8 VIN+ (in), 9 DAP (power)

## LME49725MA
designator U?
PowerWise® Dual High Performance, High Fidelity Audio Operational Amplifier, 8-pin Narrow SOIC; PartNumber: LME49725MA; Manufacturer: National Semiconductor; PackageTopMarking: NSZXTT*L49725*MA; PowerWise: Y; CompType: Audio IC; DatasheetVersion: Apr-2008; PackageVersion: revM, May-2009; PackageReference: M08A; PackageDescription: SOIC Narrow, 4.9 x 3.9 x 1.45mm, 8 Lead, 1.27mm Pitch; RoHS: Y; PinCount: 8; High-Reliability: Y; Code_JEDEC: MS-012-AA; Code_IPC: SOIC127P600-8; ComponentLink1Description: Manufacturer URL; ComponentLink1URL: http://www.national.com/; ComponentLink2Description: LME49725 Datasheet; ComponentLink2URL: http://www.national.com/ds/LM/LME49725.pdf; ComponentLink3Description: LME49725 Web Page; ComponentLink3URL: http://www.national.com/pf/LM/LME49725.html; ComponentLink4Description: M08A Package Page; ComponentLink4URL: http://www.national.com/packaging/folders/m08a.html
footprint M08A_N (SOIC, 8-Leads, Body 4.9x3.9mm, Pitch 1.27mm, IPC Medium Density)
footprint M08A_L (SOIC, 8-Leads, Body 4.9x3.9mm, Pitch 1.27mm, IPC High Density)
footprint M08A_M (SOIC, 8-Leads, Body 4.9x3.9mm, Pitch 1.27mm, IPC Low Density)
pins on every part: 4 V- (power), 8 V+ (power)
part A pins: 1 OUT A (out), 2 IN A (in), 3 IN A (in)
part B pins: 5 IN B (in), 6 IN B (in), 7 OUT B (out)

## LME49725MA/NOPB
designator U?
PowerWise® Dual High Performance, High Fidelity Audio Operational Amplifier, 8-pin Narrow SOIC, Pb-Free; PartNumber: LME49725MA/NOPB; Manufacturer: National Semiconductor; PackageTopMarking: NSZXTT*L49725*MA; PowerWise: N; CompType: Audio IC; High-Reliability: Y; DatasheetVersion: Apr-2008; PackageVersion: revM, May-2009; PackageReference: M08A; PackageDescription: SOIC Narrow, 4.9 x 3.9 x 1.45mm, 8 Lead, 1.27mm Pitch; RoHS: Y; PinCount: 8; Code_JEDEC: MS-012-AA; Code_IPC: SOIC127P600-8; ComponentLink1Description: Manufacturer URL; ComponentLink1URL: http://www.national.com/; ComponentLink2Description: LME49725 Datasheet; ComponentLink2URL: http://www.national.com/ds/LM/LME49725.pdf; ComponentLink3Description: LME49725 Web Page; ComponentLink3URL: http://www.national.com/pf/LM/LME49725.html; ComponentLink4Description: M08A Package Page; ComponentLink4URL: http://www.national.com/packaging/folders/m08a.html
footprint M08A_N (SOIC, 8-Leads, Body 4.9x3.9mm, Pitch 1.27mm, IPC Medium Density)
footprint M08A_L (SOIC, 8-Leads, Body 4.9x3.9mm, Pitch 1.27mm, IPC High Density)
footprint M08A_M (SOIC, 8-Leads, Body 4.9x3.9mm, Pitch 1.27mm, IPC Low Density)
pins on every part: 4 V- (power), 8 V+ (power)
part A pins: 1 OUT A (out), 2 IN A (in), 3 IN A (in)
part B pins: 5 IN B (in), 6 IN B (in), 7 OUT B (out)

## LME49725MAX/NOPB
designator U?
PowerWise® Dual High Performance, High Fidelity Audio Operational Amplifier, 8-pin Narrow SOIC, Pb-Free; PartNumber: LME49725MAX/NOPB; Manufacturer: National Semiconductor; PackageTopMarking: NSZXTT*L49725*MA; PowerWise: N; CompType: Audio IC; High-Reliability: Y; DatasheetVersion: Apr-2008; PackageVersion: revM, May-2009; PackageReference: M08A; PackageDescription: SOIC Narrow, 4.9 x 3.9 x 1.45mm, 8 Lead, 1.27mm Pitch; RoHS: Y; PinCount: 8; Code_JEDEC: MS-012-AA; Code_IPC: SOIC127P600-8; ComponentLink1Description: Manufacturer URL; ComponentLink1URL: http://www.national.com/; ComponentLink2Description: LME49725 Datasheet; ComponentLink2URL: http://www.national.com/ds/LM/LME49725.pdf; ComponentLink3Description: LME49725 Web Page; ComponentLink3URL: http://www.national.com/pf/LM/LME49725.html; ComponentLink4Description: M08A Package Page; ComponentLink4URL: http://www.national.com/packaging/folders/m08a.html
footprint M08A_N (SOIC, 8-Leads, Body 4.9x3.9mm, Pitch 1.27mm, IPC Medium Density)
footprint M08A_L (SOIC, 8-Leads, Body 4.9x3.9mm, Pitch 1.27mm, IPC High Density)
footprint M08A_M (SOIC, 8-Leads, Body 4.9x3.9mm, Pitch 1.27mm, IPC Low Density)
pins on every part: 4 V- (power), 8 V+ (power)
part A pins: 1 OUT A (out), 2 IN A (in), 3 IN A (in)
part B pins: 5 IN B (in), 6 IN B (in), 7 OUT B (out)

## LME49726MY
designator U?
High Current, Low Distortion Rail-to-Rail Output Audio Operational Amplifier, 9-pin eMSOP; PartNumber: LME49726MY; Manufacturer: National Semiconductor; PackageTopMarking: ZXTT*ZA3; PowerWise: N; CompType: Audio IC; High-Reliability: Y; DatasheetVersion: Nov-2008; PackageVersion: revA, Nov-2003; PackageReference: MUY08A; PackageDescription: Molded Mini-SO, Exposed Pad, .118 x .118 x .034in Body, 8 Lead, .0256in Pitch; RoHS: Y; PinCount: 8; Code_JEDEC: MO-187-AA; ComponentLink1Description: Manufacturer URL; ComponentLink1URL: http://www.national.com/; ComponentLink2Description: LME49726 Datasheet; ComponentLink2URL: http://www.national.com/ds/LM/LME49726.pdf; ComponentLink3Description: LME49726 Web Page; ComponentLink3URL: http://www.national.com/pf/LM/LME49726.html; ComponentLink4Description: MUY08A Package Page; ComponentLink4URL: http://www.national.com/packaging/folders/muy08a.html
footprint MUY08A_N (TSOP, 8-Leads, Body 3x3mm, Pitch 0.65mm, Thermal Pad, IPC Medium Density)
footprint MUY08A_L (TSOP, 8-Leads, Body 3x3mm, Pitch 0.65mm, Thermal Pad, IPC High Density)
footprint MUY08A_M (TSOP, 8-Leads, Body 3x3mm, Pitch 0.65mm, Thermal Pad, IPC Low Density)
pins: 1 OUT A (out), 2 -IN A (in), 3 +IN A (in), 4 VSS (power), 5 +IN B (in), 6 -IN B (in), 7 OUT B (out), 8 VDD (power), 9 DAP (power)

## LME49726MY/NOPB
designator U?
High Current, Low Distortion Rail-to-Rail Output Audio Operational Amplifier, 8-pin Mini SOIC-EP, Pb-Free; PartNumber: LME49726MY/NOPB; Manufacturer: National Semiconductor; PackageTopMarking: ZXTT*ZA3; PowerWise: N; CompType: Audio IC; High-Reliability: Y; DatasheetVersion: Nov-2008; PackageVersion: revA, Nov-2003; PackageReference: MUY08A; PackageDescription: Molded Mini-SO, Exposed Pad, .118 x .118 x .034in Body, 8 Lead, .0256in Pitch; RoHS: Y; PinCount: 8; Code_JEDEC: MO-187-AA; ComponentLink1Description: Manufacturer URL; ComponentLink1URL: http://www.national.com/; ComponentLink2Description: LME49726 Datasheet; ComponentLink2URL: http://www.national.com/ds/LM/LME49726.pdf; ComponentLink3Description: LME49726 Web Page; ComponentLink3URL: http://www.national.com/pf/LM/LME49726.html; ComponentLink4Description: MUY08A Package Page; ComponentLink4URL: http://www.national.com/packaging/folders/muy08a.html
footprint MUY08A_N (TSOP, 8-Leads, Body 3x3mm, Pitch 0.65mm, Thermal Pad, IPC Medium Density)
footprint MUY08A_L (TSOP, 8-Leads, Body 3x3mm, Pitch 0.65mm, Thermal Pad, IPC High Density)
footprint MUY08A_M (TSOP, 8-Leads, Body 3x3mm, Pitch 0.65mm, Thermal Pad, IPC Low Density)
pins: 1 OUT A (out), 2 -IN A (in), 3 +IN A (in), 4 VSS (power), 5 +IN B (in), 6 -IN B (in), 7 OUT B (out), 8 VDD (power), 9 DAP (power)

## LME49726MYX/NOPB
designator U?
High Current, Low Distortion Rail-to-Rail Output Audio Operational Amplifier, 8-pin Mini SOIC-EP, Pb-Free; PartNumber: LME49726MYX/NOPB; Manufacturer: National Semiconductor; PackageTopMarking: ZXTT*ZA3; PowerWise: N; CompType: Audio IC; High-Reliability: Y; DatasheetVersion: Nov-2008; PackageVersion: revA, Nov-2003; PackageReference: MUY08A; PackageDescription: Molded Mini-SO, Exposed Pad, .118 x .118 x .034in Body, 8 Lead, .0256in Pitch; RoHS: Y; PinCount: 8; Code_JEDEC: MO-187-AA; ComponentLink1Description: Manufacturer URL; ComponentLink1URL: http://www.national.com/; ComponentLink2Description: LME49726 Datasheet; ComponentLink2URL: http://www.national.com/ds/LM/LME49726.pdf; ComponentLink3Description: LME49726 Web Page; ComponentLink3URL: http://www.national.com/pf/LM/LME49726.html; ComponentLink4Description: MUY08A Package Page; ComponentLink4URL: http://www.national.com/packaging/folders/muy08a.html
footprint MUY08A_N (TSOP, 8-Leads, Body 3x3mm, Pitch 0.65mm, Thermal Pad, IPC Medium Density)
footprint MUY08A_L (TSOP, 8-Leads, Body 3x3mm, Pitch 0.65mm, Thermal Pad, IPC High Density)
footprint MUY08A_M (TSOP, 8-Leads, Body 3x3mm, Pitch 0.65mm, Thermal Pad, IPC Low Density)
pins: 1 OUT A (out), 2 -IN A (in), 3 +IN A (in), 4 VSS (power), 5 +IN B (in), 6 -IN B (in), 7 OUT B (out), 8 VDD (power), 9 DAP (power)

## LME49740MA
designator U?
Quad High Performance, High Fidelity Audio Operational Amplifier, 14-pin Narrow SOIC; PartNumber: LME49740MA; Manufacturer: National Semiconductor; PackageTopMarking: NSUZXYTT*LME49740*MA; PowerWise: Y; CompType: Audio IC; DatasheetVersion: Feb-2008; PackageVersion: revJ, Jan-1996; PackageReference: M14A; PackageDescription: Molded Package S.O., .150in Wide, 14 Lead; RoHS: Y; PinCount: 14; High-Reliability: Y; Code_JEDEC: MS-012AB; Code_IPC: SOIC127P600-14; ComponentLink1Description: Manufacturer URL; ComponentLink1URL: http://www.national.com/; ComponentLink2Description: LME49740 Datasheet; ComponentLink2URL: http://www.national.com/ds/LM/LME49740.pdf; ComponentLink3Description: LME49740 Web Page; ComponentLink3URL: http://www.national.com/pf/LM/LME49740.html; ComponentLink4Description: M14A Package Page; ComponentLink4URL: http://www.national.com/packaging/folders/m14a.html
footprint M14A_N (SOIC, 14-Leads, Body 8.6x3.9mm, Pitch 1.27mm, IPC Medium Density)
footprint M14A_L (SOIC, 14-Leads, Body 8.6x3.9mm, Pitch 1.27mm, IPC High Density)
footprint M14A_M (SOIC, 14-Leads, Body 8.6x3.9mm, Pitch 1.27mm, IPC Low Density)
pins on every part: 4 V+ (power), 11 V- (power)
part A pins: 1 OUT1 (out), 2 -IN1 (in), 3 +IN1 (in)
part B pins: 5 +IN2 (in), 6 -IN2 (in), 7 OUT2 (out)
part C pins: 8 OUT3 (out), 9 -IN3 (in), 10 +IN3 (in)
part D pins: 12 +IN4 (in), 13 -IN4 (in), 14 OUT4 (out)

## LME49740MA/NOPB
designator U?
Quad High Performance, High Fidelity Audio Operational Amplifier, 14-pin Narrow SOIC, Pb-Free; PartNumber: LME49740MA/NOPB; Manufacturer: National Semiconductor; PackageTopMarking: NSUZXYTTE#*LME49740*MA; PowerWise: Y; CompType: Audio IC; DatasheetVersion: Feb-2008; PackageVersion: revJ, Jan-1996; PackageReference: M14A; PackageDescription: Molded Package S.O., .150in Wide, 14 Lead; RoHS: Y; PinCount: 14; High-Reliability: Y; Code_JEDEC: MS-012AB; Code_IPC: SOIC127P600-14; ComponentLink1Description: Manufacturer URL; ComponentLink1URL: http://www.national.com/; ComponentLink2Description: LME49740 Datasheet; ComponentLink2URL: http://www.national.com/ds/LM/LME49740.pdf; ComponentLink3Description: LME49740 Web Page; ComponentLink3URL: http://www.national.com/pf/LM/LME49740.html; ComponentLink4Description: M14A Package Page; ComponentLink4URL: http://www.national.com/packaging/folders/m14a.html
footprint M14A_N (SOIC, 14-Leads, Body 8.6x3.9mm, Pitch 1.27mm, IPC Medium Density)
footprint M14A_L (SOIC, 14-Leads, Body 8.6x3.9mm, Pitch 1.27mm, IPC High Density)
footprint M14A_M (SOIC, 14-Leads, Body 8.6x3.9mm, Pitch 1.27mm, IPC Low Density)
pins on every part: 4 V+ (power), 11 V- (power)
part A pins: 1 OUT1 (out), 2 -IN1 (in), 3 +IN1 (in)
part B pins: 5 +IN2 (in), 6 -IN2 (in), 7 OUT2 (out)
part C pins: 8 OUT3 (out), 9 -IN3 (in), 10 +IN3 (in)
part D pins: 12 +IN4 (in), 13 -IN4 (in), 14 OUT4 (out)

## LME49740MAX/NOPB
designator U?
Quad High Performance, High Fidelity Audio Operational Amplifier, 14-pin Narrow SOIC, Pb-Free; PartNumber: LME49740MAX/NOPB; Manufacturer: National Semiconductor; PackageTopMarking: NSUZXYTTE#*LME49740*MA; PowerWise: Y; CompType: Audio IC; DatasheetVersion: Feb-2008; PackageVersion: revJ, Jan-1996; PackageReference: M14A; PackageDescription: Molded Package S.O., .150in Wide, 14 Lead; RoHS: Y; PinCount: 14; High-Reliability: Y; Code_JEDEC: MS-012AB; Code_IPC: SOIC127P600-14; ComponentLink1Description: Manufacturer URL; ComponentLink1URL: http://www.national.com/; ComponentLink2Description: LME49740 Datasheet; ComponentLink2URL: http://www.national.com/ds/LM/LME49740.pdf; ComponentLink3Description: LME49740 Web Page; ComponentLink3URL: http://www.national.com/pf/LM/LME49740.html; ComponentLink4Description: M14A Package Page; ComponentLink4URL: http://www.national.com/packaging/folders/m14a.html
footprint M14A_N (SOIC, 14-Leads, Body 8.6x3.9mm, Pitch 1.27mm, IPC Medium Density)
footprint M14A_L (SOIC, 14-Leads, Body 8.6x3.9mm, Pitch 1.27mm, IPC High Density)
footprint M14A_M (SOIC, 14-Leads, Body 8.6x3.9mm, Pitch 1.27mm, IPC Low Density)
pins on every part: 4 V+ (power), 11 V- (power)
part A pins: 1 OUT1 (out), 2 -IN1 (in), 3 +IN1 (in)
part B pins: 5 +IN2 (in), 6 -IN2 (in), 7 OUT2 (out)
part C pins: 8 OUT3 (out), 9 -IN3 (in), 10 +IN3 (in)
part D pins: 12 +IN4 (in), 13 -IN4 (in), 14 OUT4 (out)

## LME49740NA
designator U?
Quad High Performance, High Fidelity Audio Operational Amplifier, 14-pin MDIP; PartNumber: LME49740NA; Manufacturer: National Semiconductor; PackageTopMarking: NSUZXYYTTE#*LME49740NA; PowerWise: Y; CompType: Audio IC; DatasheetVersion: Feb-2008; PackageVersion: revG, May-2006; PackageReference: N14A; PackageDescription: MDIP, .750 x .250 x.130in, 14 Lead, .100in Pitch; RoHS: Y; PinCount: 14; High-Reliability: Y; Code_JEDEC: MS-001-AA; ComponentLink1Description: Manufacturer URL; ComponentLink1URL: http://www.national.com/; ComponentLink2Description: LME49740 Datasheet; ComponentLink2URL: http://www.national.com/ds/LM/LME49740.pdf; ComponentLink3Description: LME49740 Web Page; ComponentLink3URL: http://www.national.com/pf/LM/LME49740.html; ComponentLink4Description: N14A Package Page; ComponentLink4URL: http://www.national.com/packaging/folders/n14a.html
footprint N14A (DIP, 14-Leads, Row Spacing 7.62mm, Pitch 2.54mm, Body 19.56x6.35mm)
pins on every part: 4 V+ (power), 11 V- (power)
part A pins: 1 OUT1 (out), 2 -IN1 (in), 3 +IN1 (in)
part B pins: 5 +IN2 (in), 6 -IN2 (in), 7 OUT2 (out)
part C pins: 8 OUT3 (out), 9 -IN3 (in), 10 +IN3 (in)
part D pins: 12 +IN4 (in), 13 -IN4 (in), 14 OUT4 (out)

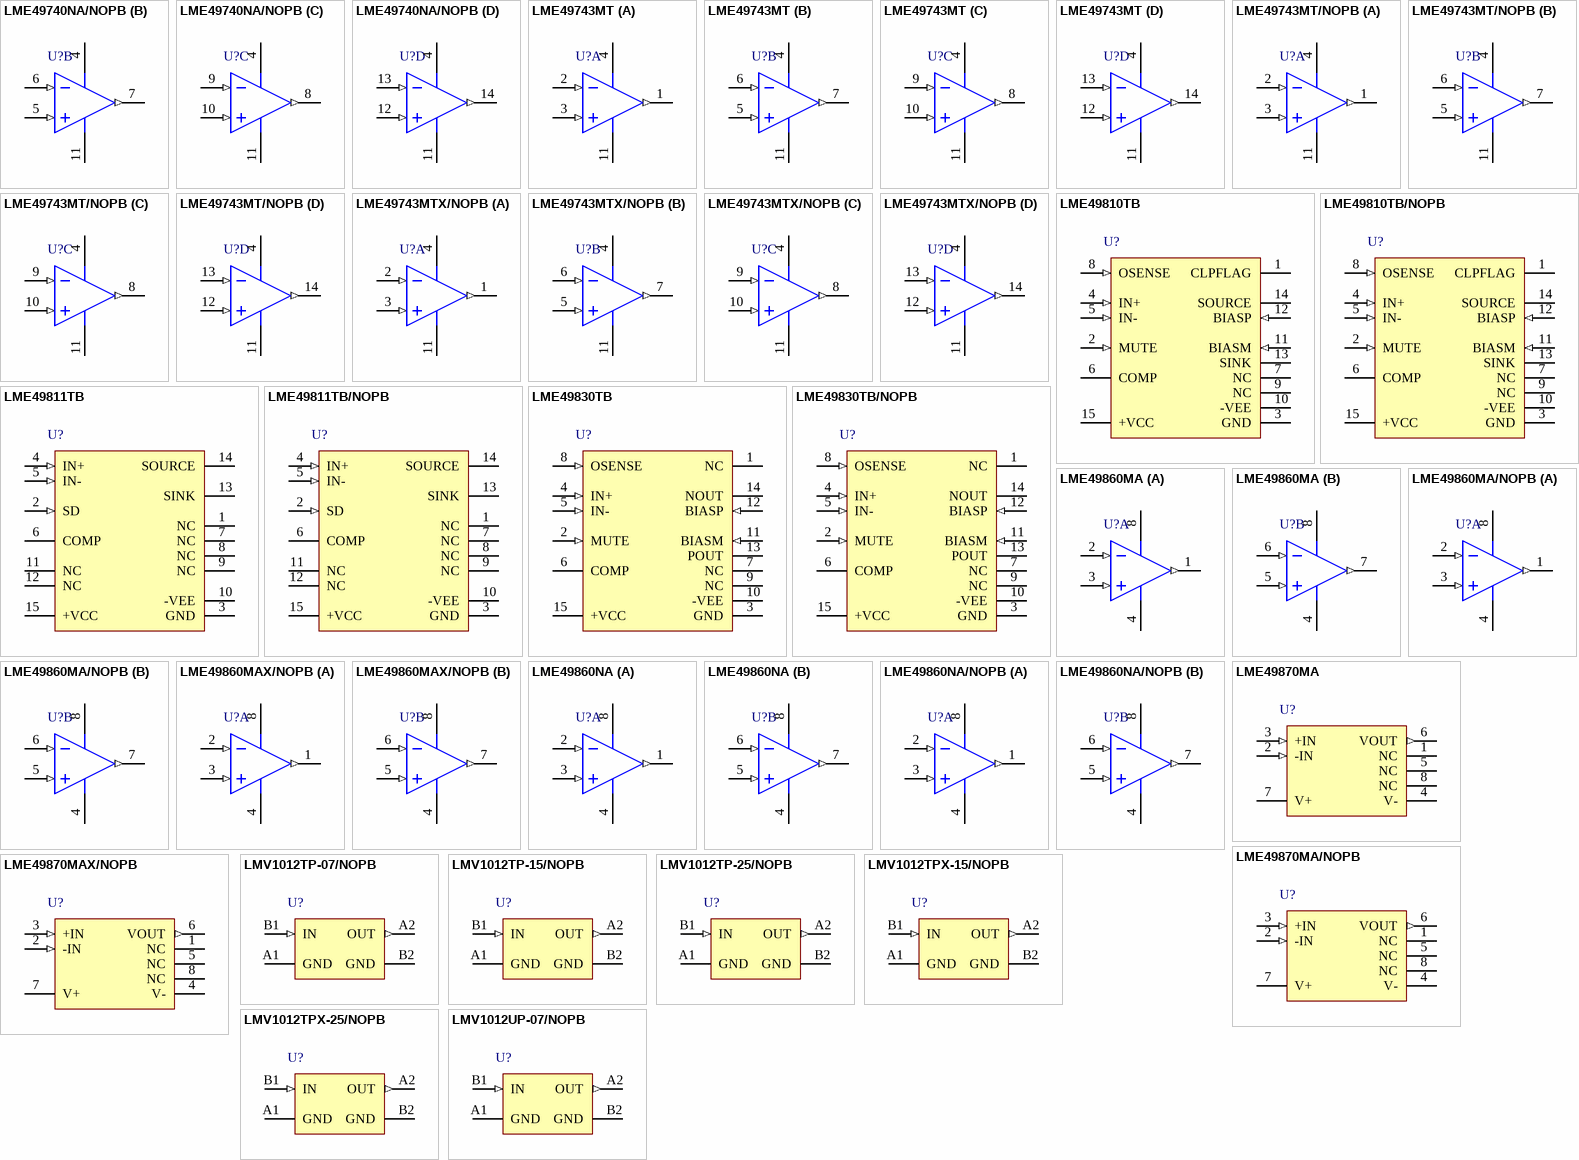
[diagram p25: symbols LME49740NA/NOPB to LMV1012UP-07/NOPB]

## LME49740NA/NOPB
designator U?
Quad High Performance, High Fidelity Audio Operational Amplifier, 14-pin MDIP, Pb-Free; PartNumber: LME49740NA/NOPB; Manufacturer: National Semiconductor; PackageTopMarking: NSUZXYYTTE#*LME49740NA; PowerWise: Y; CompType: Audio IC; DatasheetVersion: Feb-2008; PackageVersion: revG, May-2006; PackageReference: N14A; PackageDescription: MDIP, .750 x .250 x.130in, 14 Lead, .100in Pitch; RoHS: Y; PinCount: 14; High-Reliability: Y; Code_JEDEC: MS-001-AA; ComponentLink1Description: Manufacturer URL; ComponentLink1URL: http://www.national.com/; ComponentLink2Description: LME49740 Datasheet; ComponentLink2URL: http://www.national.com/ds/LM/LME49740.pdf; ComponentLink3Description: LME49740 Web Page; ComponentLink3URL: http://www.national.com/pf/LM/LME49740.html; ComponentLink4Description: N14A Package Page; ComponentLink4URL: http://www.national.com/packaging/folders/n14a.html
footprint N14A (DIP, 14-Leads, Row Spacing 7.62mm, Pitch 2.54mm, Body 19.56x6.35mm)
pins on every part: 4 V+ (power), 11 V- (power)
part A pins: 1 OUT1 (out), 2 -IN1 (in), 3 +IN1 (in)
part B pins: 5 +IN2 (in), 6 -IN2 (in), 7 OUT2 (out)
part C pins: 8 OUT3 (out), 9 -IN3 (in), 10 +IN3 (in)
part D pins: 12 +IN4 (in), 13 -IN4 (in), 14 OUT4 (out)

## LME49743MT
designator U?
Quad High Performance, High Fidelity Audio Operational Amplifier, 14-pin TSSOP; PartNumber: LME49743MT; Manufacturer: National Semiconductor; PackageTopMarking: NSUZXYTT*L49743*MT; PowerWise: N; CompType: Audio IC; High-Reliability: Y; DatasheetVersion: Jan-2009; PackageVersion: revD, Jun-2003; PackageReference: MTC14; PackageDescription: Molded TSSOP, JEDEC, 5 x 4.4 x 0.9mm Body, 14 Lead, 0.65mm Pitch; RoHS: Y; PinCount: 14; Code_JEDEC: MO-153-AB-1; ComponentLink1Description: Manufacturer URL; ComponentLink1URL: http://www.national.com/; ComponentLink2Description: LME49743 Datasheet; ComponentLink2URL: http://www.national.com/ds/LM/LME49743.pdf; ComponentLink3Description: LME49743 Web Page; ComponentLink3URL: http://www.national.com/pf/LM/LME49743.html; ComponentLink4Description: MTC14 Package Page; ComponentLink4URL: http://www.national.com/packaging/folders/mtc14.html
footprint MTC14_N (TSOP, 14-Leads, Body 5x4.4mm, Pitch 0.65mm, IPC Medium Density)
footprint MTC14_L (TSOP, 14-Leads, Body 5x4.4mm, Pitch 0.65mm, IPC High Density)
footprint MTC14_M (TSOP, 14-Leads, Body 5x4.4mm, Pitch 0.65mm, IPC Low Density)
pins on every part: 4 V+ (power), 11 V- (power)
part A pins: 1 OUT1 (out), 2 -IN1 (in), 3 +IN1 (in)
part B pins: 5 +IN2 (in), 6 -IN2 (in), 7 OUT2 (out)
part C pins: 8 OUT3 (out), 9 -IN3 (in), 10 +IN3 (in)
part D pins: 12 +IN4 (in), 13 -IN4 (in), 14 OUT4 (out)